# EAGLE library part AUDIO-AMP-BOOMER-LM4853 (library FlashPCB_ICs)
LM4853 - IC AMP CLSS AB MONO Technical Specifications: Amplifier IC 1-Channel (Mono) with Stereo Headphones Class AB Mono 1.5W BTL or Sterio 300mW Output Amplifier Headphone Sense Technology "Click and Pop" Suppression No Bootstrap Capacitors Required Thermal Shutdown Protection> Unity Gain Stable Component Search: LM4553 <https://www.flashpcb.com/components> Datasheet: LM4853 Mono 1.5 W / Stereo 300mW Power Amplifier datasheet (Rev. E) <https://www.ti.com/lit/ds/symlink/lm4853.pdf?HQS=dis-dk-null-digikeymode-dsf-pf-null-wwe&ts=1683570020770&ref_url=https%253A%252F%252Fwww.ti.com%252Fgeneral%252Fdocs%252Fsuppproductinfo.tsp%253FdistId%253D10%2526gotoUrl%253Dhttps%253A%252F%252Fwww.ti.com%252Flit%252Fgpn%252Flm4853>
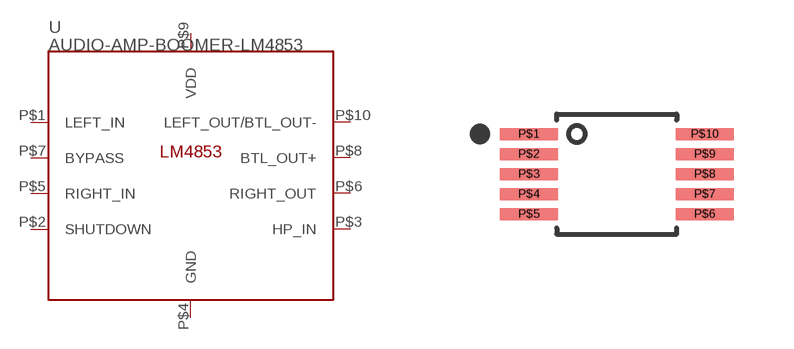
[diagram p17: symbol with the pads of 10-VSSOP; footprint 10-VSSOP]

Designator prefix U

## AUDIO-AMP-BOOMER-LM4853DGS  [10-VSSOP]
P$1  LEFT_IN
P$2  SHUTDOWN
P$3  HP_IN
P$4  GND
P$5  RIGHT_IN
P$6  RIGHT_OUT
P$7  BYPASS
P$8  BTL_OUT+
P$9  VDD
P$10  LEFT_OUT/BTL_OUT-

## Footprint 10-VSSOP (pad centres in mm)
smd 1.45 x 0.3: P$1 -2.2,1; P$2 -2.2,0.5; P$3 -2.2,0; P$4 -2.2,-0.5; P$5 -2.2,-1; P$6 2.2,-1; P$7 2.2,-0.5; P$8 2.2,0; P$9 2.2,0.5; P$10 2.2,1